# Altium schematic symbol library TCJD226M035R0100.SchLib: 1 symbol
Pins are listed as number, name and electrical type; pins without a type are passive.

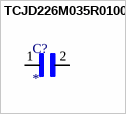
[diagram p0: symbol TCJD226M035R0100]

## TCJD226M035R0100
designator C?
Capacitor: tantalum-polymer; 22uF; 35VDC; Case: D; 2917; ESR:100mÎ©; MP: TCJD226M035R0100; Package: None; Price: None; Value: *; Availability: Unavailable
footprint CAPPM7343X310N
pins: 1, 2